# Altium footprint library 6035A4R3CAT2A.PcbLib: 1 footprints
Each footprint in its own frame and in the unit in brackets; x right, y up, seen from the top. Pads: shape width x height; smd on the part's side, far side on the other; paste and mask are expansions set on the pad; w line width, h text height; cw(c..) or ccw(c..) is an arc to the next point about the centre after c.
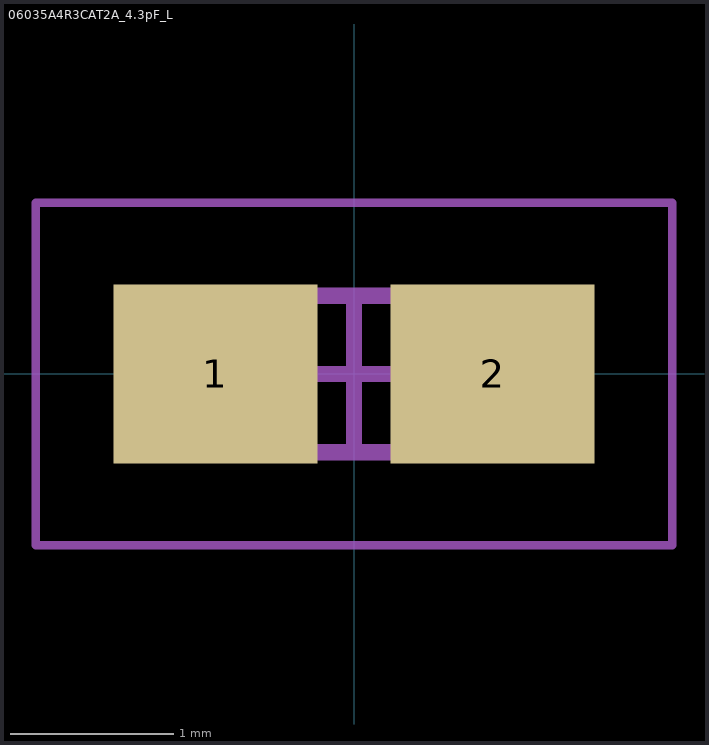
[diagram p0: the footprint, top view; thin cyan lines are the x and y axes]

## 06035A4R3CAT2A_4.3pF_L [mm] "Low-Density IPC Chip Capacitor 4.3pF 0603 6035A4R3CAT2A"
height 0.9
pads (2):
  rect 1.25x1.1 smd: 1(-0.85,0) 2(0.85,0)
Mechanical 13:
  lines w0.1: -0.875,-0.48 0.875,-0.48 0.875,0.48 -0.875,0.48 -0.875,-0.48
Mechanical 15:
  lines w0.05: -1.95,-1.05 1.95,-1.05 1.95,1.05 -1.95,1.05 -1.95,-1.05
  lines w0.1: -0.48,0 0.48,0 ; 0,-0.48 0,0.48
3D body " 06035A4R3CAT2A_4.3pF_L.step": height 0.9, standoff 0, extent -0.875,-0.48 0.875,0.48